# EAGLE library part IR2110-2 (library IR2110-2)
HIGH AND LOW SIDE DRIVER
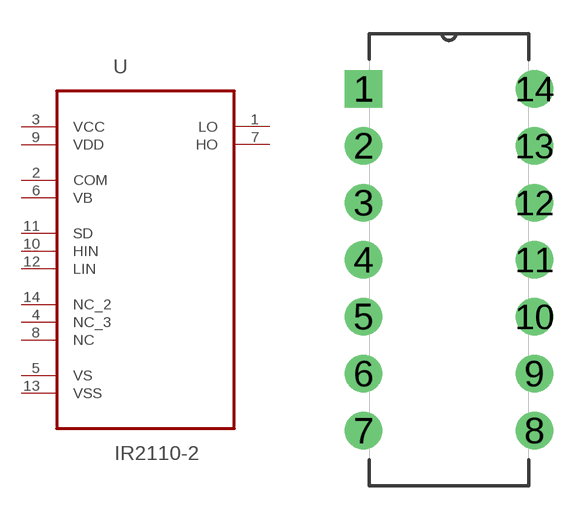
[diagram p0: symbol with the pads of DIP254P762X533-14; footprint DIP254P762X533-14]

Designator prefix U

## IR2110-2 (Availability: Unavailable; Description: Mosfet Driver, High/Low-Side, Dip-14; MF: Infineon Technologies; MP: IR21102; Package: None; Price: None)  [DIP254P762X533-14]
1  LO  out
2  COM  pas
3  VCC  pwr
4  NC_3  nc
5  VS  pwr
6  VB  pas
7  HO  out
8  NC  nc
9  VDD  pwr
10  HIN  in
11  SD  in
12  LIN  in
13  VSS  pwr
14  NC_2  nc

## Footprint DIP254P762X533-14 (pad centres in mm)
drill 1.118 square: 1 -7.62,15.24
drill 1.118: 2 -7.62,12.7; 3 -7.62,10.16; 4 -7.62,7.62; 5 -7.62,5.08; 6 -7.62,2.54; 7 -7.62,0; 8 0,0; 9 0,2.54; 10 0,5.08; 11 0,7.62; 12 0,10.16; 13 0,12.7; 14 0,15.24